# Altium footprint library JST SM06B-GHS-TB.PCBLIB: 1 footprints
Each footprint in its own frame and in the unit in brackets; x right, y up, seen from the top. Pads: shape width x height; smd on the part's side, far side on the other; paste and mask are expansions set on the pad; w line width, h text height; cw(c..) or ccw(c..) is an arc to the next point about the centre after c.
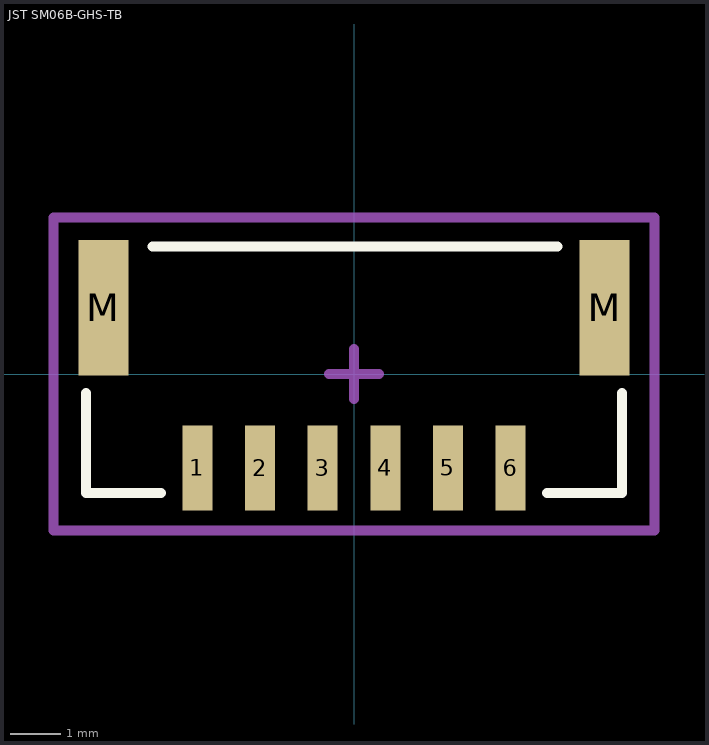
[diagram p0: the footprint, top view; thin cyan lines are the x and y axes]

## JST SM06B-GHS-TB [mm] "1.25mm pitch/Disconnectable Crimp style connectors"
height 4.35
pads (8):
  rect 0.6x1.7 smd: 1(-3.125,-1.875) 2(-1.875,-1.875) 3(-0.625,-1.875) 4(0.625,-1.875) 5(1.875,-1.875) 6(3.125,-1.875)
  rect 1x2.7 smd: M(-5,1.325) M(5,1.325)
Top Overlay:
  lines w0.2: -5.35,-0.375 -5.35,-2.375 -3.85,-2.375 ; -4.024,2.54 4.064,2.54 ; 3.85,-2.375 5.35,-2.375 5.35,-0.375
Mechanical 15:
  lines w0.2: -0.5,0 0.5,0 ; 0,-0.5 0,0.5 ; -6,-3.125 6,-3.125 6,3.125 -6,3.125 -6,-3.125
3D body "JST SM06B-GHS-TB.STEP": height 4.35, standoff 0, extent -5.375,-2.31 5.375,2.54